# EAGLE library part MQ2_3_6 (library kxnStandard_Sensor)
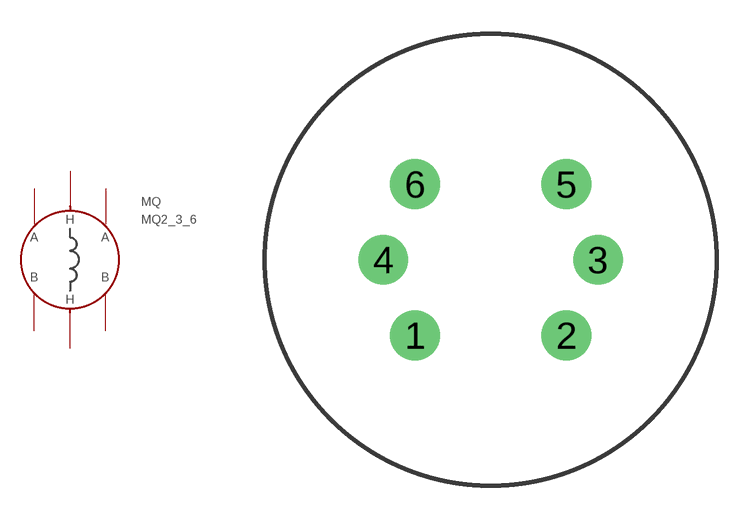
[diagram p0: symbol with the pads of MQ2_3_6; footprint MQ2_3_6]

Designator prefix MQ

## MQ2_3_6  [MQ2_3_6]
1  1
2  2
3  3
4  4
5  5
6  6

## Footprint MQ2_3_6 (pad centres in mm)
drill 1.4 pad 2.2: 1 -3.35,-3.35; 2 3.35,-3.35; 3 4.75,0; 4 -4.75,0; 5 3.35,3.35; 6 -3.35,3.35